# Altium schematic symbol library IC Power.SchLib: 1 symbol
Pins are listed as number, name and electrical type; pins without a type are passive.

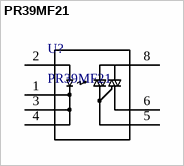
[diagram p0: symbol PR39MF21]

## PR39MF21
designator U?
Supplier 1: Digi-Key; Supplier Part Number 1: 425-2374-5-ND
footprint dip8-ssr
pins: 1 K, 2 A, 3 K, 4 K, 5, 6, 8